# EAGLE library part MICREL_USB_SWITCH (library icnh3)
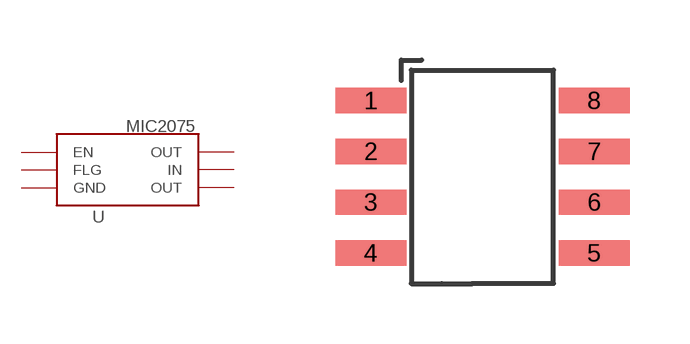
[diagram p20: symbol with the pads of SO8; footprint SO8]

Designator prefix U

## MICREL_USB_SWITCH  [SO8]
1  EN
2  FLG
3  GND
6  OUT
7  IN
8  OUT

## Footprint SO8 (pad centres in mm)
smd 1.778 x 0.635: 1 -2.54,2.54; 2 -2.54,1.27; 3 -2.54,0; 4 -2.54,-1.27; 5 3.048,-1.27; 6 3.048,0; 7 3.048,1.27; 8 3.048,2.54